# Altium integrated library Infineon_Power_LED_Driver_IC_and_Lighting_IC.IntLib: 61 symbols (part 2 of 3)
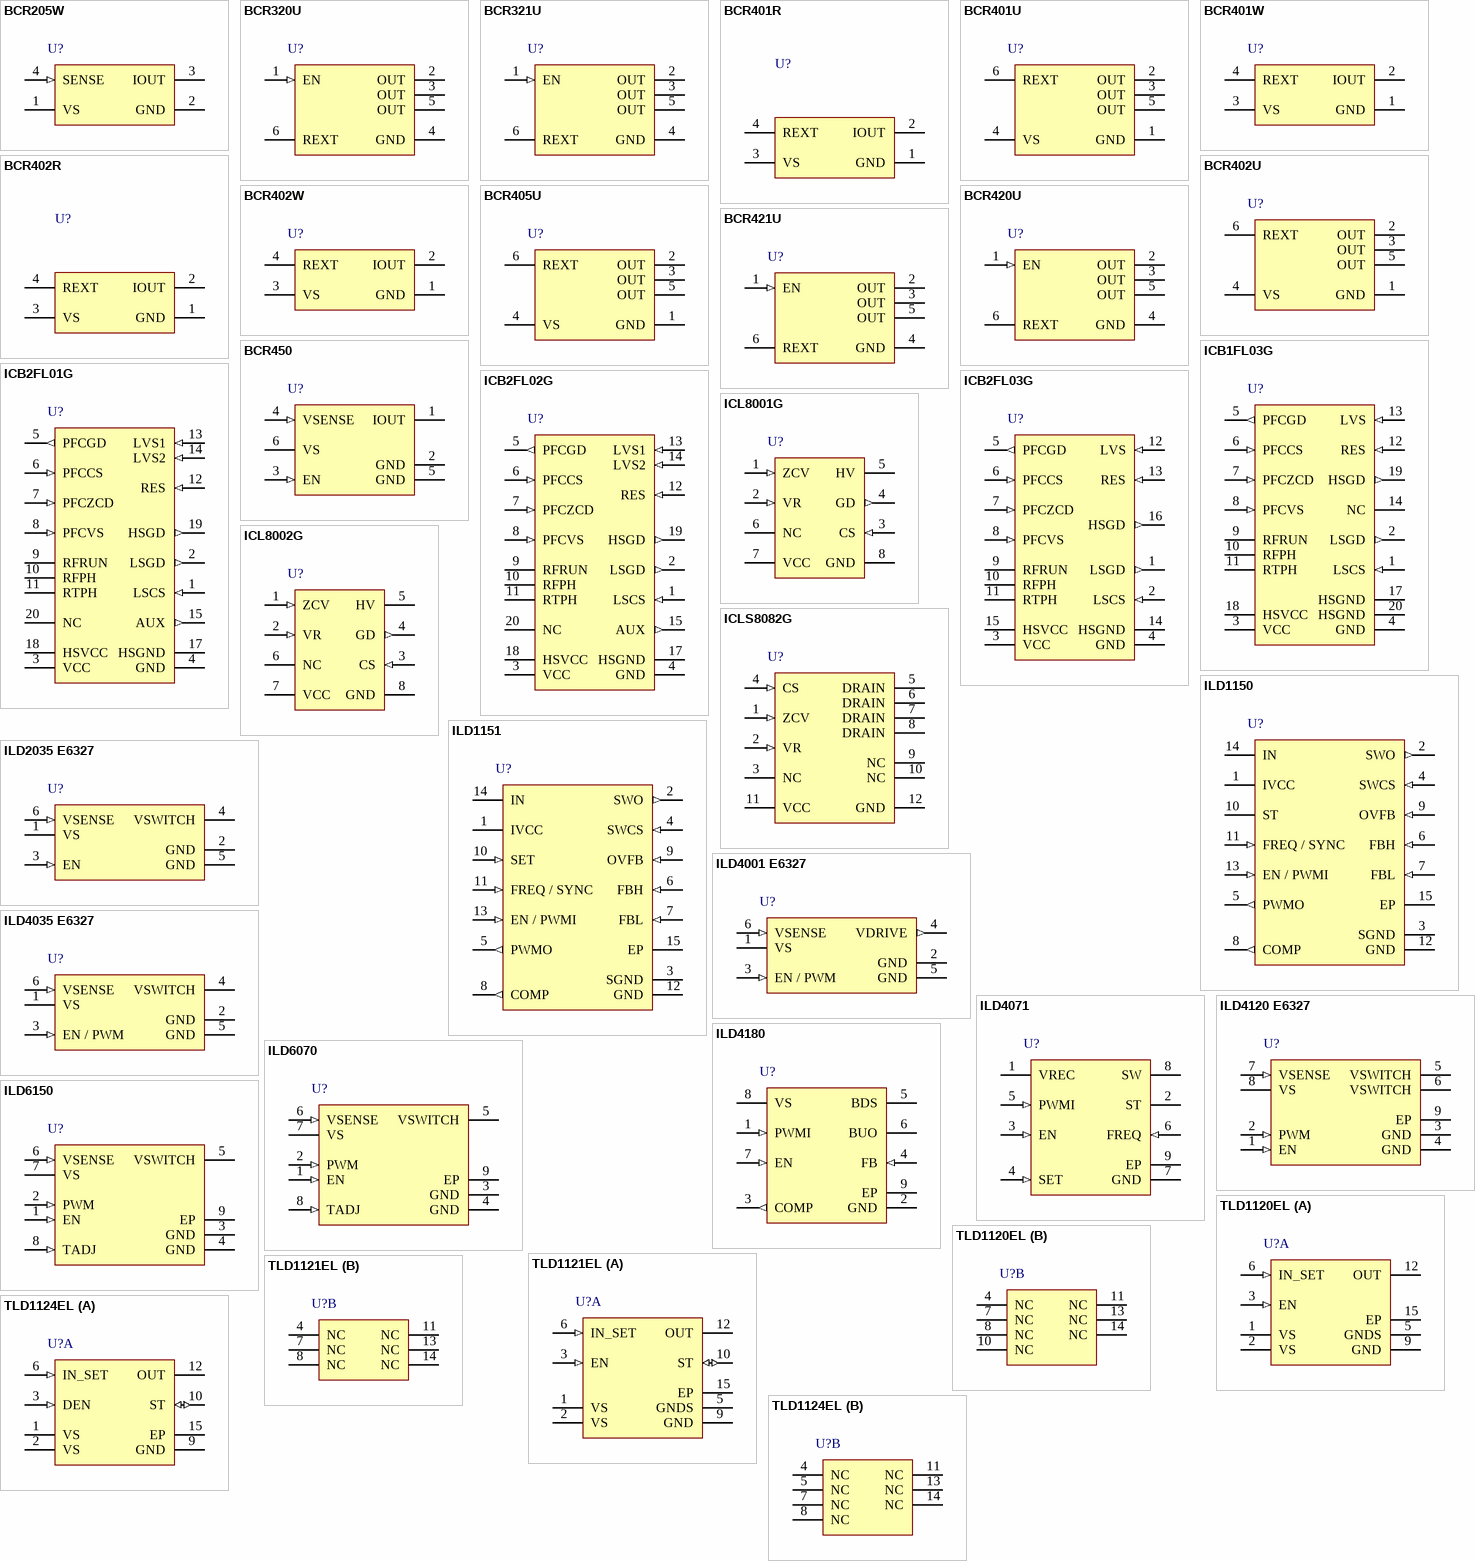
[diagram p2: symbols BCR205W to TLD1124EL]

## ILD4120 E6327
designator U?
1200 mA Step Down LED Driver, 4.5 to 40 V, PG-DSO-8-27, Reel, Pb-free; Manufacturer: Infineon; PartNumber: ILD4120 E6327; Green: TRUE; VS (max): 40 V; VS (min): 4.5 V; DatasheetVersion: Revision 6.0; PackageVersion: V01, 06/2012; PackageReference: PG-DSO-8-27; PackageDescription: 8-Pin Plastic (Green) Dual Small Outline Package, 4.9 x 3.9 mm Body, 1.27 mm Pitch; Halogen-free: TRUE; Packing: Reel; Type: Buck; Mounting Technology: Surface Mount; Code_JEDEC: MS-012; ComponentLink1Description: Manufacturer URL; ComponentLink1URL: http://www.infineon.com/; ComponentLink2Description: Datasheet; ComponentLink2URL: http://www.infineon.com/dgdl/Infineon-ILD4120-1200mA-LED-Driver-Rev6.0.pdf?folderId=db3a3043324cae8c01326744839b6812&fileId=db3a3043324cae8c0132674515946813&location=en.Products.LED_Drivers___Lighting_ICs.LED_Driver_for_Outdoor_Lighting___Indoor_Lighting.LED_Driver__Product_portfolio_and_Information.DATASHEET.Infineon-ILD4120-1200mA-LED-Driver-Rev6.0.pdf; ComponentLink3Description: Package Specification; ComponentLink3URL: http://www.infineon.com/dgdl/ILD4071_DS_V10_November2011.pdf?folderId=db3a30431f848401011fcbf2ab4c04c4&fileId=db3a30433784a04001380498fdf04c32
footprint INF-PG-DSO-8-27_N (SOP, 8-Leads, Body 4.9x3.9mm, Pitch 1.27mm, Thermal Pad 3.2x2.85mm, IPC Medium Density)
footprint INF-PG-DSO-8-27_L (SOP, 8-Leads, Body 4.9x3.9mm, Pitch 1.27mm, Thermal Pad 3.2x2.85mm, IPC High Density)
footprint INF-PG-DSO-8-27_M (SOP, 8-Leads, Body 4.9x3.9mm, Pitch 1.27mm, Thermal Pad 3.2x2.85mm, IPC Low Density)
pins: 1 EN (in) "Chip enable signal", 2 PWM (in) "Dimming signal: Analog dimming  PWM dimming", 3 GND (power) "IC ground", 4 GND (power) "IC ground", 5 VSWITCH (oc) "Power switch output", 6 VSWITCH (oc) "Power switch output", 7 VSENSE (in) "LED current sense input", 8 VS (power) "Supply voltage", 9 EP (power) "Heat spreader"

## ILD4180
designator U?
1.8 A DC/DC Step-Down Converter LED Driver for Industrial Application, 4.75 V to 45 V, PG-DSO-8-27, Reel, Pb-free; Manufacturer: Infineon; PartNumber: ILD4180; Green: TRUE; VS (max): 45 V; VS (min): 4.75 V; DatasheetVersion: Rev. 1.1; PackageVersion: V01, 06/2012; PackageReference: PG-DSO-8-27; PackageDescription: 8-Pin Plastic (Green) Dual Small Outline Package, 4.9 x 3.9 mm Body, 1.27 mm Pitch; Supplier 1: Mouser; Supplier Part Number 1: 726-ILD4180; Supplier 2: Digi-Key; Supplier Part Number 2: ILD4180-ND; Halogen-free: TRUE; Packing: Reel; Type: Buck; Mounting Technology: Surface Mount; Code_JEDEC: MS-012; ComponentLink1Description: Manufacturer URL; ComponentLink1URL: http://www.infineon.com/; ComponentLink2Description: Datasheet; ComponentLink2URL: http://www.infineon.com/dgdl/ILD4180.pdf?folderId=db3a30431f848401011fcbf2ab4c04c4&fileId=db3a3043284aacd80128ab4bf6212b32&location=en.Products.LED_Drivers___Lighting_ICs.LED_Driver_for_Outdoor_Lighting___Indoor_Lighting.LED_Driver__Product_portfolio_and_Information.DATASHEET.ILD4180.pdf; ComponentLink3Description: Package Specification; ComponentLink3URL: http://www.infineon.com/dgdl/ILD4071_DS_V10_November2011.pdf?folderId=db3a30431f848401011fcbf2ab4c04c4&fileId=db3a30433784a04001380498fdf04c32
footprint INF-PG-DSO-8-27_N (SOP, 8-Leads, Body 4.9x3.9mm, Pitch 1.27mm, Thermal Pad 3.2x2.85mm, IPC Medium Density)
footprint INF-PG-DSO-8-27_L (SOP, 8-Leads, Body 4.9x3.9mm, Pitch 1.27mm, Thermal Pad 3.2x2.85mm, IPC High Density)
footprint INF-PG-DSO-8-27_M (SOP, 8-Leads, Body 4.9x3.9mm, Pitch 1.27mm, Thermal Pad 3.2x2.85mm, IPC Low Density)
pins: 1 PWMI (in) "PWM Input for; Provides LED dimming option. If not used connect to VS.", 2 GND (power) "Ground; Connect to system ground.", 3 COMP (out) "Compensation Input; Frequency compensation for regulation loop stability. Connect R and C network to pin for stability.", 4 FB (in) "Feedback Input; Connect a defined power resistor (RFB=0.6V/ILED) to get the needed LED output current. For adjustable output voltages connect this pin via a voltage divider in parallel to the output capacitor.", 5 BDS (power) "Buck Driver Supply Input; Connect the bootstrap capacitor between this pin and pin BUO.", 6 BUO (oe) "Buck Switch Output; Source of the integrated power-switch. Connect directly to the cathode of external freewheeling diode and the buck circuit inductance.", 7 EN (in) "Enable Input; Apply logic high signal to enable the device. A pull down resistor is integrated.", 8 VS (power) "Supply Voltage Input; Connect to supply voltage source.", 9 EP (power) "Exposed Pad; Connect to heatsink area and GND by low inductance wiring."

## ILD6070
designator U?
60 V / 0.7 A High Efficiency Step-Down LED Driver, 4.5 to 60 V, PG-DSO-8-27, Reel, Pb-free; Manufacturer: Infineon; PartNumber: ILD6070; Green: TRUE; VS (max): 60 V; VS (min): 4.5 V; DatasheetVersion: Revision 2.0; PackageVersion: V01, 06/2012; PackageReference: PG-DSO-8-27; PackageDescription: 8-Pin Plastic (Green) Dual Small Outline Package, 4.9 x 3.9 mm Body, 1.27 mm Pitch; Halogen-free: TRUE; Packing: Reel; Type: Buck; Mounting Technology: Surface Mount; Code_JEDEC: MS-012; ComponentLink1Description: Manufacturer URL; ComponentLink1URL: http://www.infineon.com/; ComponentLink2Description: Datasheet; ComponentLink2URL: http://www.infineon.com/dgdl/Data_Sheet_ILD6070_preliminary.pdf?folderId=db3a30431400ef68011407a9cfc70181&fileId=db3a30433d1d0bbe013d206b623716d8&location=en.Products.LED_Drivers___Lighting_ICs.LED_Driver_for_Outdoor_Lighting___Indoor_Lighting.LED_Driver__Product_portfolio_and_Information.DATASHEET.Data_Sheet_ILD6070_preliminary.pdf; ComponentLink3Description: Package Specification; ComponentLink3URL: http://www.infineon.com/dgdl/ILD4071_DS_V10_November2011.pdf?folderId=db3a30431f848401011fcbf2ab4c04c4&fileId=db3a30433784a04001380498fdf04c32
footprint INF-PG-DSO-8-27_N (SOP, 8-Leads, Body 4.9x3.9mm, Pitch 1.27mm, Thermal Pad 3.2x2.85mm, IPC Medium Density)
footprint INF-PG-DSO-8-27_L (SOP, 8-Leads, Body 4.9x3.9mm, Pitch 1.27mm, Thermal Pad 3.2x2.85mm, IPC High Density)
footprint INF-PG-DSO-8-27_M (SOP, 8-Leads, Body 4.9x3.9mm, Pitch 1.27mm, Thermal Pad 3.2x2.85mm, IPC Low Density)
pins: 1 EN (in) "IC enable signal", 2 PWM (in) "Dimming signal: Analog dimming;  PWM dimming", 3 GND (power) "IC ground", 4 GND (power) "IC ground", 5 VSWITCH (oc) "Power switch output", 6 VSENSE (in) "LED current sense input", 7 VS (power) "Supply voltage", 8 TADJ (in) "Over-temperature adjustment", 9 EP (power) "Heat spreader"

## ILD6150
designator U?
60 V / 1.5 A High Efficiency Step-Down LED Driver, 4.5 to 60 V, PG-DSO-8-27, Reel, Pb-free; Manufacturer: Infineon; PartNumber: ILD6150; Green: TRUE; VS (max): 60 V; VS (min): 4.5 V; DatasheetVersion: Revision 2.1; PackageVersion: V01, 06/2012; PackageReference: PG-DSO-8-27; PackageDescription: 8-Pin Plastic (Green) Dual Small Outline Package, 4.9 x 3.9 mm Body, 1.27 mm Pitch; Halogen-free: TRUE; Packing: Reel; Type: Buck; Mounting Technology: Surface Mount; Code_JEDEC: MS-012; ComponentLink1Description: Manufacturer URL; ComponentLink1URL: http://www.infineon.com/; ComponentLink2Description: Datasheet; ComponentLink2URL: http://www.infineon.com/dgdl/Data_Sheet_ILD6150_preliminary.pdf?folderId=db3a30431400ef68011407a9cfc70181&fileId=db3a30433cabdd35013cb490a0006ca8&location=en.Products.LED_Drivers___Lighting_ICs.LED_Driver_for_Outdoor_Lighting___Indoor_Lighting.LED_Driver__Product_portfolio_and_Information.DATASHEET.Data_Sheet_ILD6150_preliminary.pdf; ComponentLink3Description: Package Specification; ComponentLink3URL: http://www.infineon.com/dgdl/ILD4071_DS_V10_November2011.pdf?folderId=db3a30431f848401011fcbf2ab4c04c4&fileId=db3a30433784a04001380498fdf04c32
footprint INF-PG-DSO-8-27_N (SOP, 8-Leads, Body 4.9x3.9mm, Pitch 1.27mm, Thermal Pad 3.2x2.85mm, IPC Medium Density)
footprint INF-PG-DSO-8-27_L (SOP, 8-Leads, Body 4.9x3.9mm, Pitch 1.27mm, Thermal Pad 3.2x2.85mm, IPC High Density)
footprint INF-PG-DSO-8-27_M (SOP, 8-Leads, Body 4.9x3.9mm, Pitch 1.27mm, Thermal Pad 3.2x2.85mm, IPC Low Density)
pins: 1 EN (in) "IC enable signal", 2 PWM (in) "Dimming signal: Analog dimming;  PWM dimming", 3 GND (power) "IC ground", 4 GND (power) "IC ground", 5 VSWITCH (oc) "Power switch output", 6 VSENSE (in) "LED current sense input", 7 VS (power) "Supply voltage", 8 TADJ (in) "Over-temperature adjustment", 9 EP (power) "Heat spreader"

## TLD1120EL
designator U?
1 Channel High Side Current Source Basic LED Driver, 5.5 to 40 V, -40 to 150 degC, PG-SSOP-14, Reel, Green; Manufacturer: Infineon; PartNumber: TLD1120EL; Green: TRUE; Iq (typ): 0.1 uA; Open Load Detection: FALSE; Output Current (typ) mA/Ch: 180 mA; Tolerance: 7 %; VQ (max): 40 V; VS (max): 40 V; VS (min): 5.5 V; DatasheetVersion: Rev. 1.0; PackageVersion: Oct-08; PackageReference: PG-SSOP-14-1; PackageDescription: 14-Pin Plastic (Green) Shrink Small Outline Package, 4.9 x 3.9 mm Body, 0.65 mm Pitch; Supplier 1: Mouser; Supplier Part Number 1: N/A; Halogen-free: TRUE; Packing: Reel; PWM: TRUE; Short Circuit Protection: TRUE; Mounting Technology: Surface Mount; ComponentLink1Description: Manufacturer URL; ComponentLink1URL: http://www.infineon.com/; ComponentLink2Description: Datasheet; ComponentLink2URL: http://www.infineon.com/dgdl/TLD1120EL-Data-Sheet-10-Infineon.pdf?folderId=db3a304412b407950112b408e8c90004&fileId=db3a30434422e00e01442b2fbf8350da&ack=t; ComponentLink3Description: Package Specification; ComponentLink3URL: http://www.infineon.com/dgdl/PG-SSOP-14-1%2C-2%2C-3%2C-5-Package_Overview.pdf?folderId=db3a304327b897500127f79f69566553&fileId=db3a3043422231a901422ce38a900db8
footprint INF-PG-SSOP-14-1_N (SOP, 14-Leads, Body 4.9x3.9mm, Pitch 0.65mm, Thermal Pad 3.2x2.85mm, IPC Medium Density)
footprint INF-PG-SSOP-14-1_L (SOP, 14-Leads, Body 4.9x3.9mm, Pitch 0.65mm, Thermal Pad 3.2x2.85mm, IPC High Density)
footprint INF-PG-SSOP-14-1_M (SOP, 14-Leads, Body 4.9x3.9mm, Pitch 0.65mm, Thermal Pad 3.2x2.85mm, IPC Low Density)
part A pins: 1 VS (power) "Supply Voltage; battery supply, connect a decoupling capacitor (100 nF - 1 uF) to GND", 2 VS (power) "Supply Voltage; battery supply, connect a decoupling capacitor (100 nF - 1 uF) to GND", 3 EN (in) "Enable pin", 5 GNDS (power) "GNDS; Signal GND, connect to GND", 6 IN_SET (in) "Input / SET pin; Connect a low power resistor to adjust the output current", 9 GND (power) "Ground", 12 OUT (power) "Output", 15 EP (power) "Exposed Pad; connect to GND in application"
part B pins: 4 NC "Pin not connected", 7 NC "Pin not connected", 8 NC "Pin not connected", 10 NC "Pin not connected", 11 NC "Pin not connected", 13 NC "Pin not connected", 14 NC "Pin not connected"

## TLD1121EL
designator U?
1 Channel High Side Current Source Basic LED Driver, 5.5 to 40 V, -40 to 150 degC, PG-SSOP-14, Reel, Green; Manufacturer: Infineon; PartNumber: TLD1121EL; Green: TRUE; Iq (typ): 0.1 uA; Output Current (typ) mA/Ch: 180 mA; Tolerance: 7 %; VQ (max): 40 V; VS (max): 40 V; VS (min): 5.5 V; DatasheetVersion: Rev. 1.0; PackageVersion: Oct-08; PackageReference: PG-SSOP-14-1; PackageDescription: 14-Pin Plastic (Green) Shrink Small Outline Package, 4.9 x 3.9 mm Body, 0.65 mm Pitch; Supplier 1: Mouser; Supplier Part Number 1: N/A; Halogen-free: TRUE; Open Load Detection: TRUE; Packing: Reel; PWM: TRUE; Short Circuit Protection: TRUE; Mounting Technology: Surface Mount; ComponentLink1Description: Manufacturer URL; ComponentLink1URL: http://www.infineon.com/; ComponentLink2Description: Datasheet; ComponentLink2URL: http://www.infineon.com/dgdl/TLD1121EL-Data-Sheet-10-Infineon.pdf?folderId=db3a304412b407950112b408e8c90004&fileId=db3a304341c1e4a10141dfa52ad07e41&ack=t; ComponentLink3Description: Package Specification; ComponentLink3URL: http://www.infineon.com/dgdl/PG-SSOP-14-1%2C-2%2C-3%2C-5-Package_Overview.pdf?folderId=db3a304327b897500127f79f69566553&fileId=db3a3043422231a901422ce38a900db8
footprint INF-PG-SSOP-14-1_N (SOP, 14-Leads, Body 4.9x3.9mm, Pitch 0.65mm, Thermal Pad 3.2x2.85mm, IPC Medium Density)
footprint INF-PG-SSOP-14-1_L (SOP, 14-Leads, Body 4.9x3.9mm, Pitch 0.65mm, Thermal Pad 3.2x2.85mm, IPC High Density)
footprint INF-PG-SSOP-14-1_M (SOP, 14-Leads, Body 4.9x3.9mm, Pitch 0.65mm, Thermal Pad 3.2x2.85mm, IPC Low Density)
part A pins: 1 VS (power) "Supply Voltage; battery supply, connect a decoupling capacitor (100 nF -1 uF) to GND", 2 VS (power) "Supply Voltage; battery supply, connect a decoupling capacitor (100 nF -1 uF) to GND", 3 EN (in) "Enable pin", 5 GNDS (power) "GNDS; Signal GND, connect to GND", 6 IN_SET (in) "Input / SET pin; Connect a low power resistor to adjust the output current", 9 GND (power) "Ground", 10 ST (io) "Status pin", 12 OUT (power) "Output", 15 EP (power) "Exposed Pad; connect to GND in application"
part B pins: 4 NC "Pin not connected", 7 NC "Pin not connected", 8 NC "Pin not connected", 11 NC "Pin not connected", 13 NC "Pin not connected", 14 NC "Pin not connected"

## TLD1124EL
designator U?
1 Channel High Side Current Source Basic LED Driver, 5.5 to 40 V, -40 to 150 degC, PG-SSOP-14, Reel, Green; Manufacturer: Infineon; PartNumber: TLD1124EL; Green: TRUE; Iq (typ): 0.1 uA; Output Current (typ) mA/Ch: 180 mA; Tolerance: 7 %; VQ (max): 40 V; VS (max): 40 V; VS (min): 5.5 V; DatasheetVersion: Rev. 1.0; PackageVersion: Oct-08; PackageReference: PG-SSOP-14-1; PackageDescription: 14-Pin Plastic (Green) Shrink Small Outline Package, 4.9 x 3.9 mm Body, 0.65 mm Pitch; Supplier 1: Mouser; Supplier Part Number 1: N/A; Halogen-free: TRUE; Open Load Detection: TRUE; Packing: Reel; PWM: TRUE; Short Circuit Protection: TRUE; Mounting Technology: Surface Mount; ComponentLink1Description: Manufacturer URL; ComponentLink1URL: http://www.infineon.com/; ComponentLink2Description: Datasheet; ComponentLink2URL: http://www.infineon.com/dgdl/TLD1124EL-Data-Sheet-10-Infineon.pdf?folderId=db3a304412b407950112b408e8c90004&fileId=db3a304341c1e4a10141dfadf0e607ee&ack=t; ComponentLink3Description: Package Specification; ComponentLink3URL: http://www.infineon.com/dgdl/PG-SSOP-14-1%2C-2%2C-3%2C-5-Package_Overview.pdf?folderId=db3a304327b897500127f79f69566553&fileId=db3a3043422231a901422ce38a900db8
footprint INF-PG-SSOP-14-1_N (SOP, 14-Leads, Body 4.9x3.9mm, Pitch 0.65mm, Thermal Pad 3.2x2.85mm, IPC Medium Density)
footprint INF-PG-SSOP-14-1_L (SOP, 14-Leads, Body 4.9x3.9mm, Pitch 0.65mm, Thermal Pad 3.2x2.85mm, IPC High Density)
footprint INF-PG-SSOP-14-1_M (SOP, 14-Leads, Body 4.9x3.9mm, Pitch 0.65mm, Thermal Pad 3.2x2.85mm, IPC Low Density)
part A pins: 1 VS (power) "Supply Voltage; battery supply, connect a decoupling capacitor (100 nF - 1 uF) to GND", 2 VS (power) "Supply Voltage; battery supply, connect a decoupling capacitor (100 nF - 1 uF) to GND", 3 DEN (in) "Diagnosis enable pin", 6 IN_SET (in) "Input / SET pin; Connect a low power resistor to adjust the output current", 9 GND (power) "Ground", 10 ST (io) "Status pin", 12 OUT (power) "Output", 15 EP (power) "Exposed Pad; connect to GND in application"
part B pins: 4 NC "Pin not connected", 5 NC "Pin not connected", 7 NC "Pin not connected", 8 NC "Pin not connected", 11 NC "Pin not connected", 13 NC "Pin not connected", 14 NC "Pin not connected"

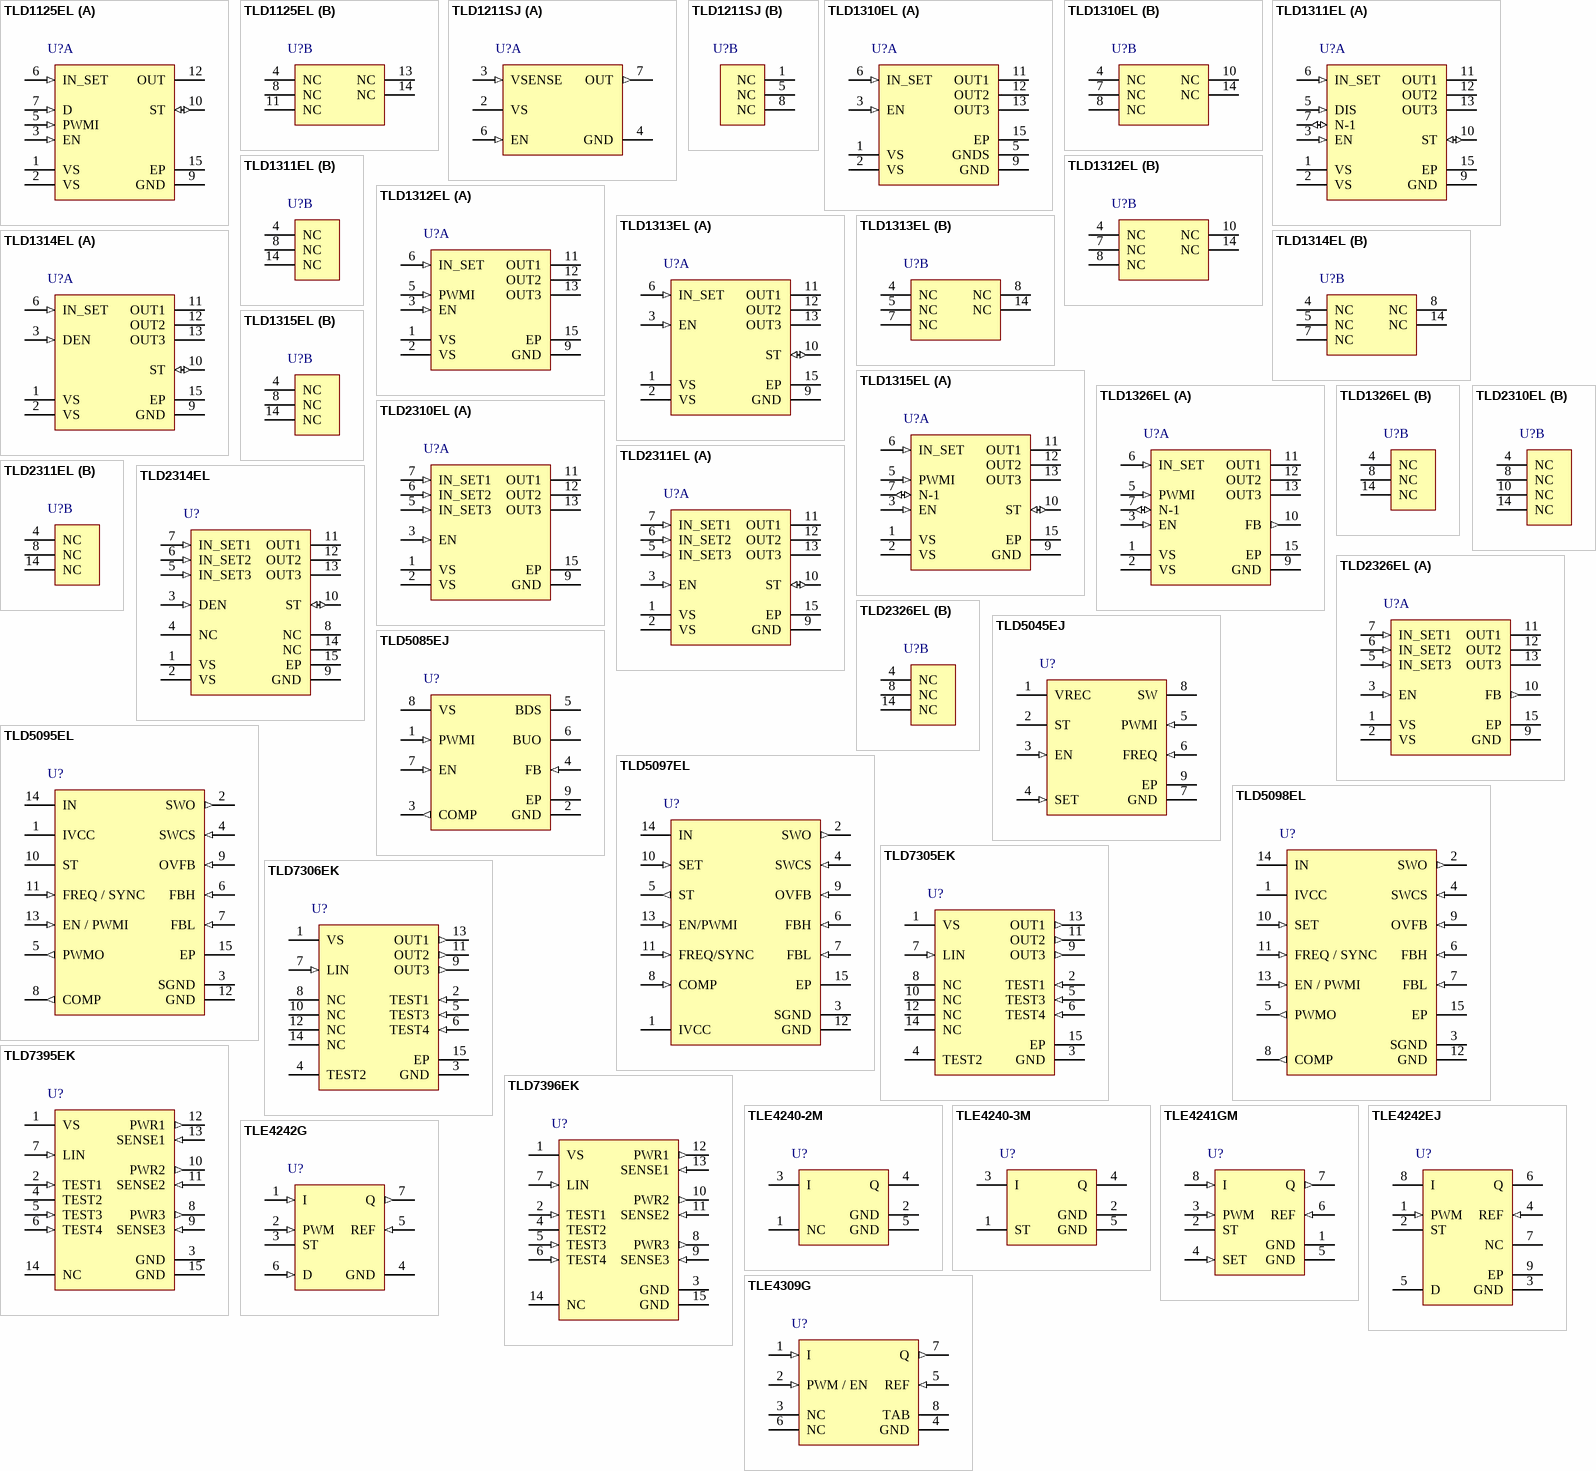
[diagram p1: symbols TLD1125EL to TLE4309G]

## TLD1125EL
designator U?
1 Channel High Side Current Source Basic LED Driver, 5.5 to 40 V, -40 to 150 degC, PG-SSOP-14, Reel, Green; Manufacturer: Infineon; PartNumber: TLD1125EL; Green: TRUE; Iq (typ): 0.1 uA; Output Current (typ) mA/Ch: 180 mA; Tolerance: 7 %; VQ (max): 40 V; VS (max): 40 V; VS (min): 5.5 V; DatasheetVersion: Rev. 1.0; PackageVersion: Oct-08; PackageReference: PG-SSOP-14-1; PackageDescription: 14-Pin Plastic (Green) Shrink Small Outline Package, 4.9 x 3.9 mm Body, 0.65 mm Pitch; Supplier 1: Mouser; Supplier Part Number 1: N/A; Halogen-free: TRUE; Open Load Detection: TRUE; Packing: Reel; PWM: TRUE; Short Circuit Protection: TRUE; Mounting Technology: Surface Mount; ComponentLink1Description: Manufacturer URL; ComponentLink1URL: http://www.infineon.com/; ComponentLink2Description: Datasheet; ComponentLink2URL: http://www.infineon.com/dgdl/TLD1125EL-Data-Sheet-10-Infineon.pdf?folderId=db3a304412b407950112b408e8c90004&fileId=db3a304341c1e4a10141dfd5ee950821&ack=t; ComponentLink3Description: Package Specification; ComponentLink3URL: http://www.infineon.com/dgdl/PG-SSOP-14-1%2C-2%2C-3%2C-5-Package_Overview.pdf?folderId=db3a304327b897500127f79f69566553&fileId=db3a3043422231a901422ce38a900db8
footprint INF-PG-SSOP-14-1_N (SOP, 14-Leads, Body 4.9x3.9mm, Pitch 0.65mm, Thermal Pad 3.2x2.85mm, IPC Medium Density)
footprint INF-PG-SSOP-14-1_L (SOP, 14-Leads, Body 4.9x3.9mm, Pitch 0.65mm, Thermal Pad 3.2x2.85mm, IPC High Density)
footprint INF-PG-SSOP-14-1_M (SOP, 14-Leads, Body 4.9x3.9mm, Pitch 0.65mm, Thermal Pad 3.2x2.85mm, IPC Low Density)
part A pins: 1 VS (power) "Supply Voltage; battery supply, connect a decoupling capacitor (100 nF - 1 uF) to GND", 2 VS (power) "Supply Voltage; battery supply, connect a decoupling capacitor (100 nF - 1 uF) to GND", 3 EN (in) "Enable pin", 5 PWMI (in) "PWM Input", 6 IN_SET (in) "Input / SET pin; Connect a low power resistor to adjust the output current", 7 D (in) "Delay for open load detection", 9 GND (power) "Ground", 10 ST (io) "Status pin", 12 OUT (power) "Output", 15 EP (power) "Exposed Pad; connect to GND in application"
part B pins: 4 NC "Pin not connected", 8 NC "Pin not connected", 11 NC "Pin not connected", 13 NC "Pin not connected", 14 NC "Pin not connected"

## TLD1211SJ
designator U?
High Side Current Source 1 Channel Typical 85 mA Load Current, Up to 2.5 A Load Current Using Extemal Transistors, 8 V to 28 V, PG-DSO-8-16, Reel, Pb-free; Manufacturer: Infineon; PartNumber: TLD1211SJ; Green: TRUE; Topology: Linear; VS (max): 28 V; VS (min): 8 V; DatasheetVersion: Rev. 1.0; PackageVersion: Mar-07; PackageReference: PG-DSO-8-16; PackageDescription: 8-Pin Plastic (Green) Dual Small Outline Package, 4.9 x 3.9 mm Body, 1.27 mm Pitch; Supplier 1: Mouser; Supplier Part Number 1: 726-TLD1211SJ; Packing: Reel; Mounting Technology: Surface Mount; ComponentLink1Description: Manufacturer URL; ComponentLink1URL: http://www.infineon.com/; ComponentLink2Description: Datasheet; ComponentLink2URL: http://www.infineon.com/dgdl/TLD1211SJ_DS_10.pdf?folderId=db3a304314dca389011561889ef01fe7&fileId=db3a304327b8975001284405c9a76a57&location=en.Products.Automotive_ICs.Infineon_Auto_LED_Driver.Basic_LED-Driver.DATASHEET.TLD1211SJ_DS_10.pdf; ComponentLink3Description: Package Specification; ComponentLink3URL: http://www.infineon.com/dgdl/TLE7259-2GE_DS_rev12.pdf?folderId=db3a3043163797a6011666d32a0c0de1&fileId=db3a3043163797a6011666d4dbb80de2&location=en.Products.Automotive_ICs.Automotive_Transceivers.LIN_Transceivers.DATASHEET.TLE7259-2GE_DS_rev12.pdf
footprint INF-PG-DSO-8-16_N (SOP, 8-Leads, Body 4.9x3.9mm, Pitch 1.27mm, IPC Medium Density)
footprint INF-PG-DSO-8-16_L (SOP, 8-Leads, Body 4.9x3.9mm, Pitch 1.27mm, IPC High Density)
footprint INF-PG-DSO-8-16_M (SOP, 8-Leads, Body 4.9x3.9mm, Pitch 1.27mm, IPC Low Density)
part A pins: 2 VS (power) "Supply voltage", 3 VSENSE (in) "Sense input", 4 GND (power) "IC ground, connect with pin 2 on PCB", 6 EN (in) "Enable(PWM Input)", 7 OUT (out) "Output"
part B pins: 1 NC "Not connected", 5 NC "Not connected", 8 NC "Not connected"

## TLD1310EL
designator U?
3 Channel High Side Current Source Basic LED Driver, 5.5 to 40 V, -40 to 150 degC, PG-SSOP-14, Reel, Green; Manufacturer: Infineon; PartNumber: TLD1310EL; Green: TRUE; Iq (typ): 0.1 uA; Open Load Detection: FALSE; Output Current (typ) mA/Ch: 60 mA; Tolerance: 7 %; VQ (max): 40 V; VS (max): 40 V; VS (min): 5.5 V; DatasheetVersion: Rev. 1.0; PackageVersion: Oct-08; PackageReference: PG-SSOP-14-1; PackageDescription: 14-Pin Plastic (Green) Shrink Small Outline Package, 4.9 x 3.9 mm Body, 0.65 mm Pitch; Supplier 1: Mouser; Supplier Part Number 1: N/A; Halogen-free: TRUE; Packing: Reel; PWM: TRUE; Short Circuit Protection: TRUE; Mounting Technology: Surface Mount; ComponentLink1Description: Manufacturer URL; ComponentLink1URL: http://www.infineon.com/; ComponentLink2Description: Datasheet; ComponentLink2URL: http://www.infineon.com/dgdl/TLD1310EL-Data-Sheet-10-Infineon.pdf?folderId=db3a304412b407950112b408e8c90004&fileId=db3a30434422e00e01442a7490ca4e8c&ack=t; ComponentLink3Description: Package Specification; ComponentLink3URL: http://www.infineon.com/dgdl/PG-SSOP-14-1%2C-2%2C-3%2C-5-Package_Overview.pdf?folderId=db3a304327b897500127f79f69566553&fileId=db3a3043422231a901422ce38a900db8
footprint INF-PG-SSOP-14-1_N (SOP, 14-Leads, Body 4.9x3.9mm, Pitch 0.65mm, Thermal Pad 3.2x2.85mm, IPC Medium Density)
footprint INF-PG-SSOP-14-1_L (SOP, 14-Leads, Body 4.9x3.9mm, Pitch 0.65mm, Thermal Pad 3.2x2.85mm, IPC High Density)
footprint INF-PG-SSOP-14-1_M (SOP, 14-Leads, Body 4.9x3.9mm, Pitch 0.65mm, Thermal Pad 3.2x2.85mm, IPC Low Density)
part A pins: 1 VS (power) "Supply Voltage; battery supply, connect a decoupling capacitor (100 nF -1 uF) to GND", 2 VS (power) "Supply Voltage; battery supply, connect a decoupling capacitor (100 nF -1 uF) to GND", 3 EN (in) "Enable pin", 5 GNDS (power) "GNDS; Signal GND, connect to GND", 6 IN_SET (in) "Input / SET pin; Connect a low power resistor to adjust the output current", 9 GND (power) "Ground", 11 OUT1 (power) "Output 1", 12 OUT2 (power) "Output 2", 13 OUT3 (power) "Output 3", 15 EP (power) "Exposed Pad; connect to GND in application"
part B pins: 4 NC "Pin not connected", 7 NC "Pin not connected", 8 NC "Pin not connected", 10 NC "Pin not connected", 14 NC "Pin not connected"

## TLD1311EL
designator U?
3 Channel High Side Current Source Basic LED Driver, 5.5 to 40 V, -40 to 150 degC, PG-SSOP-14, Reel, Green; Manufacturer: Infineon; PartNumber: TLD1311EL; Green: TRUE; Iq (typ): 0.1 uA; Open Load Detection: FALSE; Output Current (typ) mA/Ch: 60 mA; Tolerance: 7 %; VQ (max): 40 V; VS (max): 40 V; VS (min): 5.5 V; DatasheetVersion: Rev. 1.0; PackageVersion: Oct-08; PackageReference: PG-SSOP-14-1; PackageDescription: 14-Pin Plastic (Green) Shrink Small Outline Package, 4.9 x 3.9 mm Body, 0.65 mm Pitch; Supplier 1: Mouser; Supplier Part Number 1: N/A; Halogen-free: TRUE; Packing: Reel; PWM: TRUE; Short Circuit Protection: TRUE; Mounting Technology: Surface Mount; ComponentLink1Description: Manufacturer URL; ComponentLink1URL: http://www.infineon.com/; ComponentLink2Description: Datasheet; ComponentLink2URL: http://www.infineon.com/dgdl/TLD1311EL-Data-Sheet-10-Infineon.pdf?folderId=db3a304412b407950112b408e8c90004&fileId=db3a30434422e00e01442a7916464eb4&ack=t; ComponentLink3Description: Package Specification; ComponentLink3URL: http://www.infineon.com/dgdl/PG-SSOP-14-1%2C-2%2C-3%2C-5-Package_Overview.pdf?folderId=db3a304327b897500127f79f69566553&fileId=db3a3043422231a901422ce38a900db8
footprint INF-PG-SSOP-14-1_N (SOP, 14-Leads, Body 4.9x3.9mm, Pitch 0.65mm, Thermal Pad 3.2x2.85mm, IPC Medium Density)
footprint INF-PG-SSOP-14-1_L (SOP, 14-Leads, Body 4.9x3.9mm, Pitch 0.65mm, Thermal Pad 3.2x2.85mm, IPC High Density)
footprint INF-PG-SSOP-14-1_M (SOP, 14-Leads, Body 4.9x3.9mm, Pitch 0.65mm, Thermal Pad 3.2x2.85mm, IPC Low Density)
part A pins: 1 VS (power) "Supply Voltage; battery supply, connect a decoupling capacitor (100 nF -1 uF) to GND", 2 VS (power) "Supply Voltage; battery supply, connect a decoupling capacitor (100 nF -1 uF) to GND", 3 EN (in) "Enable pin", 5 DIS (in) "Disable Input", 6 IN_SET (in) "Input / SET pin; Connect a low power resistor to adjust the output current", 7 N-1 (io) "N-1 pin", 9 GND (power) "Ground", 10 ST (io) "Status pin", 11 OUT1 (power) "Output 1", 12 OUT2 (power) "Output 2", 13 OUT3 (power) "Output 3", 15 EP (power) "Exposed Pad; connect to GND in application"
part B pins: 4 NC "Pin not connected", 8 NC "Pin not connected", 14 NC "Pin not connected"

## TLD1312EL
designator U?
3 Channel High Side Current Source Basic LED Driver, 5.5 to 40 V, -40 to 150 degC, PG-SSOP-14, Reel, Green; Manufacturer: Infineon; PartNumber: TLD1312EL; Green: TRUE; Iq (typ): 0.1 uA; Open Load Detection: FALSE; Output Current (typ) mA/Ch: 60 mA; Tolerance: 7 %; VQ (max): 40 V; VS (max): 40 V; VS (min): 5.5 V; DatasheetVersion: Rev. 1.0; PackageVersion: Oct-08; PackageReference: PG-SSOP-14-1; PackageDescription: 14-Pin Plastic (Green) Shrink Small Outline Package, 4.9 x 3.9 mm Body, 0.65 mm Pitch; Supplier 1: Mouser; Supplier Part Number 1: N/A; Halogen-free: TRUE; Packing: Reel; PWM: TRUE; Short Circuit Protection: TRUE; Mounting Technology: Surface Mount; ComponentLink1Description: Manufacturer URL; ComponentLink1URL: http://www.infineon.com/; ComponentLink2Description: Datasheet; ComponentLink2URL: http://www.infineon.com/dgdl/TLD1312EL-Data-Sheet-10-Infineon.pdf?folderId=db3a304412b407950112b408e8c90004&fileId=db3a30434422e00e01442a7d7dfa4ed9&ack=t; ComponentLink3Description: Package Specification; ComponentLink3URL: http://www.infineon.com/dgdl/PG-SSOP-14-1%2C-2%2C-3%2C-5-Package_Overview.pdf?folderId=db3a304327b897500127f79f69566553&fileId=db3a3043422231a901422ce38a900db8
footprint INF-PG-SSOP-14-1_N (SOP, 14-Leads, Body 4.9x3.9mm, Pitch 0.65mm, Thermal Pad 3.2x2.85mm, IPC Medium Density)
footprint INF-PG-SSOP-14-1_L (SOP, 14-Leads, Body 4.9x3.9mm, Pitch 0.65mm, Thermal Pad 3.2x2.85mm, IPC High Density)
footprint INF-PG-SSOP-14-1_M (SOP, 14-Leads, Body 4.9x3.9mm, Pitch 0.65mm, Thermal Pad 3.2x2.85mm, IPC Low Density)
part A pins: 1 VS (power) "Supply Voltage; battery supply, connect a decoupling capacitor (100 nF -1 uF) to GND", 2 VS (power) "Supply Voltage; battery supply, connect a decoupling capacitor (100 nF -1 uF) to GND", 3 EN (in) "Enable pin", 5 PWMI (in) "PWM Input", 6 IN_SET (in) "Input / SET pin; Connect a low power resistor to adjust the output current", 9 GND (power) "Ground", 11 OUT1 (power) "Output 1", 12 OUT2 (power) "Output 2", 13 OUT3 (power) "Output 3", 15 EP (power) "Exposed Pad; connect to GND in application"
part B pins: 4 NC "Pin not connected", 7 NC "Pin not connected", 8 NC "Pin not connected", 10 NC "Pin not connected", 14 NC "Pin not connected"

## TLD1313EL
designator U?
3 Channel High Side Current Source Basic LED Driver, 5.5 to 40 V, -40 to 150 degC, PG-SSOP-14, Reel, Green; Manufacturer: Infineon; PartNumber: TLD1313EL; Green: TRUE; Iq (typ): 0.1 uA; Output Current (typ) mA/Ch: 60 mA; Tolerance: 7 %; VQ (max): 40 V; VS (max): 40 V; VS (min): 5.5 V; DatasheetVersion: Rev. 1.0; PackageVersion: Oct-08; PackageReference: PG-SSOP-14-1; PackageDescription: 14-Pin Plastic (Green) Shrink Small Outline Package, 4.9 x 3.9 mm Body, 0.65 mm Pitch; Supplier 1: Mouser; Supplier Part Number 1: N/A; Halogen-free: TRUE; Open Load Detection: TRUE; Packing: Reel; PWM: TRUE; Short Circuit Protection: TRUE; Mounting Technology: Surface Mount; ComponentLink1Description: Manufacturer URL; ComponentLink1URL: http://www.infineon.com/; ComponentLink2Description: Datasheet; ComponentLink2URL: http://www.infineon.com/dgdl/TLD1313EL-Data-Sheet-10-Infineon.pdf?folderId=db3a304412b407950112b408e8c90004&fileId=db3a304341c1e4a10141dfac3272072f&ack=t; ComponentLink3Description: Package Specification; ComponentLink3URL: http://www.infineon.com/dgdl/PG-SSOP-14-1%2C-2%2C-3%2C-5-Package_Overview.pdf?folderId=db3a304327b897500127f79f69566553&fileId=db3a3043422231a901422ce38a900db8
footprint INF-PG-SSOP-14-1_N (SOP, 14-Leads, Body 4.9x3.9mm, Pitch 0.65mm, Thermal Pad 3.2x2.85mm, IPC Medium Density)
footprint INF-PG-SSOP-14-1_L (SOP, 14-Leads, Body 4.9x3.9mm, Pitch 0.65mm, Thermal Pad 3.2x2.85mm, IPC High Density)
footprint INF-PG-SSOP-14-1_M (SOP, 14-Leads, Body 4.9x3.9mm, Pitch 0.65mm, Thermal Pad 3.2x2.85mm, IPC Low Density)
part A pins: 1 VS (power) "Supply Voltage; battery supply, connect a decoupling capacitor (100 nF -1 uF) to GND", 2 VS (power) "Supply Voltage; battery supply, connect a decoupling capacitor (100 nF -1 uF) to GND", 3 EN (in) "Enable pin", 6 IN_SET (in) "Input / SET pin; Connect a low power resistor to adjust the output current", 9 GND (power) "Ground", 10 ST (io) "Status pin", 11 OUT1 (power) "Output 1", 12 OUT2 (power) "Output 2", 13 OUT3 (power) "Output 3", 15 EP (power) "Exposed Pad; connect to GND in application"
part B pins: 4 NC "Pin not connected", 5 NC "Pin not connected", 7 NC "Pin not connected", 8 NC "Pin not connected", 14 NC "Pin not connected"

## TLD1314EL
designator U?
3 Channel High Side Current Source Basic LED Driver, 5.5 to 40 V, -40 to 150 degC, PG-SSOP-14, Reel, Green; Manufacturer: Infineon; PartNumber: TLD1314EL; Green: TRUE; Output Current (typ) mA/Ch: 60 mA; VS (max): 40 V; VS (min): 5.5 V; DatasheetVersion: Rev. 1.0; PackageVersion: Oct-08; PackageReference: PG-SSOP-14-1; PackageDescription: 14-Pin Plastic (Green) Shrink Small Outline Package, 4.9 x 3.9 mm Body, 0.65 mm Pitch; Supplier 1: Mouser; Supplier Part Number 1: N/A; Halogen-free: TRUE; Open Load Detection: TRUE; Packing: Reel; PWM: TRUE; Short Circuit Protection: TRUE; Mounting Technology: Surface Mount; ComponentLink1Description: Manufacturer URL; ComponentLink1URL: http://www.infineon.com/; ComponentLink2Description: Datasheet; ComponentLink2URL: http://www.infineon.com/dgdl/TLD1314EL-Data-Sheet-10-Infineon.pdf?folderId=db3a304412b407950112b408e8c90004&fileId=db3a304341c1e4a10141dfd3611d07fd&ack=t; ComponentLink3Description: Package Specification; ComponentLink3URL: http://www.infineon.com/dgdl/PG-SSOP-14-1%2C-2%2C-3%2C-5-Package_Overview.pdf?folderId=db3a304327b897500127f79f69566553&fileId=db3a3043422231a901422ce38a900db8
footprint INF-PG-SSOP-14-1_N (SOP, 14-Leads, Body 4.9x3.9mm, Pitch 0.65mm, Thermal Pad 3.2x2.85mm, IPC Medium Density)
footprint INF-PG-SSOP-14-1_L (SOP, 14-Leads, Body 4.9x3.9mm, Pitch 0.65mm, Thermal Pad 3.2x2.85mm, IPC High Density)
footprint INF-PG-SSOP-14-1_M (SOP, 14-Leads, Body 4.9x3.9mm, Pitch 0.65mm, Thermal Pad 3.2x2.85mm, IPC Low Density)
part A pins: 1 VS (power) "Supply Voltage; battery supply, connect a decoupling capacitor (100 nF -1 uF) to GND", 2 VS (power) "Supply Voltage; battery supply, connect a decoupling capacitor (100 nF -1 uF) to GND", 3 DEN (in) "Diagnosis enable pin", 6 IN_SET (in) "Input / SET pin; Connect a low power resistor to adjust the output current", 9 GND (power) "Ground", 10 ST (io) "Status pin", 11 OUT1 (power) "Output 1", 12 OUT2 (power) "Output 2", 13 OUT3 (power) "Output 3", 15 EP (power) "Exposed Pad; connect to GND in application"
part B pins: 4 NC "Pin not connected", 5 NC "Pin not connected", 7 NC "Pin not connected", 8 NC "Pin not connected", 14 NC "Pin not connected"

## TLD1315EL
designator U?
3 Channel High Side Current Source Basic LED Driver, 5.5 to 40 V, -40 to 150 degC, PG-SSOP-14, Reel, Green; Manufacturer: Infineon; PartNumber: TLD1315EL; Green: TRUE; Output Current (typ) mA/Ch: 60 mA; VS (max): 40 V; VS (min): 5.5 V; DatasheetVersion: Rev. 1.0; PackageVersion: Oct-08; PackageReference: PG-SSOP-14-1; PackageDescription: 14-Pin Plastic (Green) Shrink Small Outline Package, 4.9 x 3.9 mm Body, 0.65 mm Pitch; Supplier 1: Mouser; Supplier Part Number 1: N/A; Halogen-free: TRUE; Open Load Detection: TRUE; Packing: Reel; PWM: TRUE; Short Circuit Protection: TRUE; Mounting Technology: Surface Mount; ComponentLink1Description: Manufacturer URL; ComponentLink1URL: http://www.infineon.com/; ComponentLink2Description: Datasheet; ComponentLink2URL: http://www.infineon.com/dgdl/TLD1315EL-Data-Sheet-10-Infineon.pdf?folderId=db3a304412b407950112b408e8c90004&fileId=db3a30434422e00e01442a85d51a4f3d&ack=t; ComponentLink3Description: Package Specification; ComponentLink3URL: http://www.infineon.com/dgdl/PG-SSOP-14-1%2C-2%2C-3%2C-5-Package_Overview.pdf?folderId=db3a304327b897500127f79f69566553&fileId=db3a3043422231a901422ce38a900db8
footprint INF-PG-SSOP-14-1_N (SOP, 14-Leads, Body 4.9x3.9mm, Pitch 0.65mm, Thermal Pad 3.2x2.85mm, IPC Medium Density)
footprint INF-PG-SSOP-14-1_L (SOP, 14-Leads, Body 4.9x3.9mm, Pitch 0.65mm, Thermal Pad 3.2x2.85mm, IPC High Density)
footprint INF-PG-SSOP-14-1_M (SOP, 14-Leads, Body 4.9x3.9mm, Pitch 0.65mm, Thermal Pad 3.2x2.85mm, IPC Low Density)
part A pins: 1 VS (power) "Supply Voltage; battery supply, connect a decoupling capacitor (100 nF -1 uF) to GND", 2 VS (power) "Supply Voltage; battery supply, connect a decoupling capacitor (100 nF -1 uF) to GND", 3 EN (in) "Enable pin", 5 PWMI (in) "PWM Input", 6 IN_SET (in) "Input / SET pin; Connect a low power resistor to adjust the output current", 7 N-1 (io) "N-1 pin", 9 GND (power) "Ground", 10 ST (io) "Status pin", 11 OUT1 (power) "Output 1", 12 OUT2 (power) "Output 2", 13 OUT3 (power) "Output 3", 15 EP (power) "Exposed Pad; connect to GND in application"
part B pins: 4 NC "Pin not connected", 8 NC "Pin not connected", 14 NC "Pin not connected"

## TLD1326EL
designator U?
3 Channel High Side Current Source Basic LED Driver, 5.5 to 40 V, -40 to 150 degC, PG-SSOP-14, Reel, Green; Manufacturer: Infineon; PartNumber: TLD1326EL; Green: TRUE; Output Current (typ) mA/Ch: 60 mA; VS (max): 40 V; VS (min): 5.5 V; DatasheetVersion: Rev. 1.0; PackageVersion: Oct-08; PackageReference: PG-SSOP-14-1; PackageDescription: 14-Pin Plastic (Green) Shrink Small Outline Package, 4.9 x 3.9 mm Body, 0.65 mm Pitch; Supplier 1: Mouser; Supplier Part Number 1: N/A; Halogen-free: TRUE; Open Load Detection: TRUE; Packing: Reel; PWM: TRUE; Short Circuit Protection: TRUE; Mounting Technology: Surface Mount; ComponentLink1Description: Manufacturer URL; ComponentLink1URL: http://www.infineon.com/; ComponentLink2Description: Datasheet; ComponentLink2URL: http://www.infineon.com/dgdl/TLD1326EL-Data-Sheet-10-Infineon.pdf?folderId=db3a304412b407950112b408e8c90004&fileId=db3a30434422e00e01442a8928384f61&ack=t; ComponentLink3Description: Package Specification; ComponentLink3URL: http://www.infineon.com/dgdl/PG-SSOP-14-1%2C-2%2C-3%2C-5-Package_Overview.pdf?folderId=db3a304327b897500127f79f69566553&fileId=db3a3043422231a901422ce38a900db8
footprint INF-PG-SSOP-14-1_N (SOP, 14-Leads, Body 4.9x3.9mm, Pitch 0.65mm, Thermal Pad 3.2x2.85mm, IPC Medium Density)
footprint INF-PG-SSOP-14-1_L (SOP, 14-Leads, Body 4.9x3.9mm, Pitch 0.65mm, Thermal Pad 3.2x2.85mm, IPC High Density)
footprint INF-PG-SSOP-14-1_M (SOP, 14-Leads, Body 4.9x3.9mm, Pitch 0.65mm, Thermal Pad 3.2x2.85mm, IPC Low Density)
part A pins: 1 VS (power) "Supply Voltage; battery supply, connect a decoupling capacitor (100 nF - 1 uF) to GND", 2 VS (power) "Supply Voltage; battery supply, connect a decoupling capacitor (100 nF - 1 uF) to GND", 3 EN (in) "Enable pin", 5 PWMI (in) "PWM Input", 6 IN_SET (in) "Input / SET pin; Connect a low power resistor to adjust the output current", 7 N-1 (io) "N-1 pin", 9 GND (power) "Ground", 10 FB (out) "Feedback Output", 11 OUT1 (power) "Output 1", 12 OUT2 (power) "Output 2", 13 OUT3 (power) "Output 3", 15 EP (power) "Exposed Pad; connect to GND in application"
part B pins: 4 NC "Pin not connected", 8 NC "Pin not connected", 14 NC "Pin not connected"

## TLD2310EL
designator U?
3 Channel High Side Current Source Basic LED Driver, 5.5 to 40 V, -40 to 150 degC, PG-SSOP-14, Reel, Green; Manufacturer: Infineon; PartNumber: TLD2310EL; Green: TRUE; Open Load Detection: FALSE; Output Current (typ) mA/Ch: 60 mA; VS (max): 40 V; VS (min): 5.5 V; DatasheetVersion: Rev. 1.0; PackageVersion: Oct-08; PackageReference: PG-SSOP-14-1; PackageDescription: 14-Pin Plastic (Green) Shrink Small Outline Package, 4.9 x 3.9 mm Body, 0.65 mm Pitch; Supplier 1: Mouser; Supplier Part Number 1: N/A; Halogen-free: TRUE; Packing: Reel; PWM: TRUE; Short Circuit Protection: TRUE; Mounting Technology: Surface Mount; ComponentLink1Description: Manufacturer URL; ComponentLink1URL: http://www.infineon.com/; ComponentLink2Description: Datasheet; ComponentLink2URL: http://www.infineon.com/dgdl/TLD2310EL-Data-Sheet-10-Infineon.pdf?folderId=db3a304412b407950112b408e8c90004&fileId=db3a30434422e00e01442a8d6d134f7e&ack=t; ComponentLink3Description: Package Specification; ComponentLink3URL: http://www.infineon.com/dgdl/PG-SSOP-14-1%2C-2%2C-3%2C-5-Package_Overview.pdf?folderId=db3a304327b897500127f79f69566553&fileId=db3a3043422231a901422ce38a900db8
footprint INF-PG-SSOP-14-1_N (SOP, 14-Leads, Body 4.9x3.9mm, Pitch 0.65mm, Thermal Pad 3.2x2.85mm, IPC Medium Density)
footprint INF-PG-SSOP-14-1_L (SOP, 14-Leads, Body 4.9x3.9mm, Pitch 0.65mm, Thermal Pad 3.2x2.85mm, IPC High Density)
footprint INF-PG-SSOP-14-1_M (SOP, 14-Leads, Body 4.9x3.9mm, Pitch 0.65mm, Thermal Pad 3.2x2.85mm, IPC Low Density)
part A pins: 1 VS (power) "Supply Voltage", 2 VS (power) "Supply Voltage", 3 EN (in) "Enable pin", 5 IN_SET3 (in) "Input / SET pin 3", 6 IN_SET2 (in) "Input / SET pin 2", 7 IN_SET1 (in) "Input / SET pin 1", 9 GND (power) "Ground", 11 OUT1 (power) "Output 1", 12 OUT2 (power) "Output 2", 13 OUT3 (power) "Output 3", 15 EP (power) "Exposed Pad"
part B pins: 4 NC "Pin not connected", 8 NC "Pin not connected", 10 NC "Pin not connected", 14 NC "Pin not connected"

## TLD2311EL
designator U?
3 Channel High Side Current Source Basic LED Driver, 5.5 to 40 V, -40 to 150 degC, PG-SSOP-14, Reel, Green; Manufacturer: Infineon; PartNumber: TLD2311EL; Green: TRUE; Output Current (typ) mA/Ch: 60 mA; VS (max): 40 V; VS (min): 5.5 V; DatasheetVersion: Rev. 1.0; PackageVersion: Oct-08; PackageReference: PG-SSOP-14-1; PackageDescription: 14-Pin Plastic (Green) Shrink Small Outline Package, 4.9 x 3.9 mm Body, 0.65 mm Pitch; Supplier 1: Mouser; Supplier Part Number 1: N/A; Halogen-free: TRUE; Open Load Detection: TRUE; Packing: Reel; PWM: TRUE; Short Circuit Protection: TRUE; Mounting Technology: Surface Mount; ComponentLink1Description: Manufacturer URL; ComponentLink1URL: http://www.infineon.com/; ComponentLink2Description: Datasheet; ComponentLink2URL: http://www.infineon.com/dgdl/TLD2311EL-Data-Sheet-10-Infineon.pdf?folderId=db3a304412b407950112b408e8c90004&fileId=db3a304341c1e4a10141dfa7dfd80320&ack=t; ComponentLink3Description: Package Specification; ComponentLink3URL: http://www.infineon.com/dgdl/PG-SSOP-14-1%2C-2%2C-3%2C-5-Package_Overview.pdf?folderId=db3a304327b897500127f79f69566553&fileId=db3a3043422231a901422ce38a900db8
footprint INF-PG-SSOP-14-1_N (SOP, 14-Leads, Body 4.9x3.9mm, Pitch 0.65mm, Thermal Pad 3.2x2.85mm, IPC Medium Density)
footprint INF-PG-SSOP-14-1_L (SOP, 14-Leads, Body 4.9x3.9mm, Pitch 0.65mm, Thermal Pad 3.2x2.85mm, IPC High Density)
footprint INF-PG-SSOP-14-1_M (SOP, 14-Leads, Body 4.9x3.9mm, Pitch 0.65mm, Thermal Pad 3.2x2.85mm, IPC Low Density)
part A pins: 1 VS (power) "Supply Voltage; battery supply, connect a decoupling capacitor (100 nF - 1 uF) to GND", 2 VS (power) "Supply Voltage; battery supply, connect a decoupling capacitor (100 nF - 1 uF) to GND", 3 EN (in) "Enable pin", 5 IN_SET3 (in) "Input / SET pin 3; Connect a low power resistor to adjust the output current", 6 IN_SET2 (in) "Input / SET pin 2; Connect a low power resistor to adjust the output current", 7 IN_SET1 (in) "Input / SET pin 1; Connect a low power resistor to adjust the output current", 9 GND (power) "Ground", 10 ST (io) "Status pin", 11 OUT1 (power) "Output 1", 12 OUT2 (power) "Output 2", 13 OUT3 (power) "Output 3", 15 EP (power) "Exposed Pad; connect to GND in application"
part B pins: 4 NC "Pin not connected", 8 NC "Pin not connected", 14 NC "Pin not connected"

## TLD2314EL
designator U?
3 Channel High Side Current Source Basic LED Driver, 5.5 to 40 V, -40 to 150 degC, PG-SSOP-14, Reel, Green; Manufacturer: Infineon; PartNumber: TLD2314EL; Green: TRUE; Output Current (typ) mA/Ch: 60 mA; VS (max): 40 V; VS (min): 5.5 V; DatasheetVersion: Rev. 1.0; PackageVersion: Oct-08; PackageReference: PG-SSOP-14-1; PackageDescription: 14-Pin Plastic (Green) Shrink Small Outline Package, 4.9 x 3.9 mm Body, 0.65 mm Pitch; Supplier 1: Mouser; Supplier Part Number 1: N/A; Halogen-free: TRUE; Open Load Detection: TRUE; Packing: Reel; PWM: TRUE; Short Circuit Protection: TRUE; Mounting Technology: Surface Mount; ComponentLink1Description: Manufacturer URL; ComponentLink1URL: http://www.infineon.com/; ComponentLink2Description: Datasheet; ComponentLink2URL: http://www.infineon.com/dgdl/TLD2314EL-Data-Sheet-10-Infineon.pdf?folderId=db3a304412b407950112b408e8c90004&fileId=db3a304341c1e4a10141dfd4c6c4081c&ack=t; ComponentLink3Description: Package Specification; ComponentLink3URL: http://www.infineon.com/dgdl/PG-SSOP-14-1%2C-2%2C-3%2C-5-Package_Overview.pdf?folderId=db3a304327b897500127f79f69566553&fileId=db3a3043422231a901422ce38a900db8
footprint INF-PG-SSOP-14-1_N (SOP, 14-Leads, Body 4.9x3.9mm, Pitch 0.65mm, Thermal Pad 3.2x2.85mm, IPC Medium Density)
footprint INF-PG-SSOP-14-1_L (SOP, 14-Leads, Body 4.9x3.9mm, Pitch 0.65mm, Thermal Pad 3.2x2.85mm, IPC High Density)
footprint INF-PG-SSOP-14-1_M (SOP, 14-Leads, Body 4.9x3.9mm, Pitch 0.65mm, Thermal Pad 3.2x2.85mm, IPC Low Density)
pins: 1 VS (power) "Supply Voltage; battery supply, connect a decoupling capacitor (100 nF - 1 uF) to GND", 2 VS (power) "Supply Voltage; battery supply, connect a decoupling capacitor (100 nF - 1 uF) to GND", 3 DEN (in) "Diagnosis enable pin", 4 NC "Pin not connected", 5 IN_SET3 (in) "Input / SET pin 3; Connect a low power resistor to adjust the output current", 6 IN_SET2 (in) "Input / SET pin 2; Connect a low power resistor to adjust the output current", 7 IN_SET1 (in) "Input / SET pin 1; Connect a low power resistor to adjust the output current", 8 NC "Pin not connected", 9 GND (power) "Ground", 10 ST (io) "Status pin", 11 OUT1 (power) "Output 1", 12 OUT2 (power) "Output 2", 13 OUT3 (power) "Output 3", 14 NC "Pin not connected", 15 EP (power) "Exposed Pad; connect to GND in application"

## TLD2326EL
designator U?
3 Channel High Side Current Source Basic LED Driver, 5.5 to 40 V, -40 to 150 degC, PG-SSOP-14, Reel, Green; Manufacturer: Infineon; PartNumber: TLD2326EL; Green: TRUE; Output Current (typ) mA/Ch: 60 mA; VS (max): 40 V; VS (min): 5.5 V; DatasheetVersion: Rev. 1.0; PackageVersion: Oct-08; PackageReference: PG-SSOP-14-1; PackageDescription: 14-Pin Plastic (Green) Shrink Small Outline Package, 4.9 x 3.9 mm Body, 0.65 mm Pitch; Supplier 1: Mouser; Supplier Part Number 1: N/A; Halogen-free: TRUE; Open Load Detection: TRUE; Packing: Reel; PWM: TRUE; Short Circuit Protection: TRUE; Mounting Technology: Surface Mount; ComponentLink1Description: Manufacturer URL; ComponentLink1URL: http://www.infineon.com/; ComponentLink2Description: Datasheet; ComponentLink2URL: http://www.infineon.com/dgdl/TLD2326EL-Data-Sheet-10-Infineon.pdf?folderId=db3a304412b407950112b408e8c90004&fileId=db3a30434422e00e01442a9146214fa2&ack=t; ComponentLink3Description: Package Specification; ComponentLink3URL: http://www.infineon.com/dgdl/PG-SSOP-14-1%2C-2%2C-3%2C-5-Package_Overview.pdf?folderId=db3a304327b897500127f79f69566553&fileId=db3a3043422231a901422ce38a900db8
footprint INF-PG-SSOP-14-1_N (SOP, 14-Leads, Body 4.9x3.9mm, Pitch 0.65mm, Thermal Pad 3.2x2.85mm, IPC Medium Density)
footprint INF-PG-SSOP-14-1_L (SOP, 14-Leads, Body 4.9x3.9mm, Pitch 0.65mm, Thermal Pad 3.2x2.85mm, IPC High Density)
footprint INF-PG-SSOP-14-1_M (SOP, 14-Leads, Body 4.9x3.9mm, Pitch 0.65mm, Thermal Pad 3.2x2.85mm, IPC Low Density)
part A pins: 1 VS (power) "Supply Voltage; battery supply, connect a decoupling capacitor (100 nF - 1 uF) to GND", 2 VS (power) "Supply Voltage; battery supply, connect a decoupling capacitor (100 nF - 1 uF) to GND", 3 EN (in) "Enable pin", 5 IN_SET3 (in) "Input / SET pin 3; Connect a low power resistor to adjust the output current", 6 IN_SET2 (in) "Input / SET pin 2; Connect a low power resistor to adjust the output current", 7 IN_SET1 (in) "Input / SET pin 1; Connect a low power resistor to adjust the output current", 9 GND (power) "Ground", 10 FB (out) "Feedback Output", 11 OUT1 (power) "Output 1", 12 OUT2 (power) "Output 2", 13 OUT3 (power) "Output 3", 15 EP (power) "Exposed Pad; connect to GND in application"
part B pins: 4 NC "Pin not connected", 8 NC "Pin not connected", 14 NC "Pin not connected"

## TLD5045EJ
designator U?
700 mA High Integration - DC/DC Step-Down Converter, 5 to 40 V, -40 to 150 degC, PG-DSO-8-27, Reel, Pb-free; Manufacturer: Infineon; PartNumber: TLD5045EJ; Green: TRUE; Topology: DC-DC Buck; VS (max): 40 V; VS (min): 5 V; DatasheetVersion: Rev. 1.0; PackageVersion: V01, 06/2012; PackageReference: PG-DSO-8-27; PackageDescription: 8-Pin Plastic (Green) Dual Small Outline Package, 4.9 x 3.9 mm Body, 1.27 mm Pitch; Supplier 1: Digi-Key; Supplier Part Number 1: TLD5045EJ-ND; Halogen-free: TRUE; Packing: Reel; Mounting Technology: Surface Mount; Code_JEDEC: MS-012; ComponentLink1Description: Manufacturer URL; ComponentLink1URL: http://www.infineon.com/; ComponentLink2Description: Datasheet; ComponentLink2URL: http://www.infineon.com/dgdl/TLD5045EJ_DS_V10_May2011.pdf?folderId=db3a3043163797a6011667aa084c0e01&fileId=db3a304330f6860601310a21ecb200b1&location=en.Products.Automotive_ICs.Infineon_Auto_LED_Driver.Power_LED_drivers.DATASHEET.TLD5045EJ_DS_V10_May2011.pdf; ComponentLink3Description: Package Specification; ComponentLink3URL: http://www.infineon.com/dgdl/ILD4071_DS_V10_November2011.pdf?folderId=db3a30431f848401011fcbf2ab4c04c4&fileId=db3a30433784a04001380498fdf04c32
footprint INF-PG-DSO-8-27_N (SOP, 8-Leads, Body 4.9x3.9mm, Pitch 1.27mm, Thermal Pad 3.2x2.85mm, IPC Medium Density)
footprint INF-PG-DSO-8-27_L (SOP, 8-Leads, Body 4.9x3.9mm, Pitch 1.27mm, Thermal Pad 3.2x2.85mm, IPC High Density)
footprint INF-PG-DSO-8-27_M (SOP, 8-Leads, Body 4.9x3.9mm, Pitch 1.27mm, Thermal Pad 3.2x2.85mm, IPC Low Density)
pins: 1 VREC (power) "Voltage Recirculation Output and Internal Supply Input; This pin is the supply pin of the IC (see block diagram). Furthermore the cathode of the integrated fast freewheeling diode is connected to this pin as well.", 2 ST (oc) "Status Output;Open collector diagnostic output to indicate an open load failure. Refer to Chapter 7 for more details.", 3 EN (in) "Enable; Apply logic HIGH signal to enable the device", 4 SET (in) "SET Input;Connect a low power resistor to adjust the output current.", 5 PWMI (in) "PWM Input; PWM signal for dimming LEDs. Connect external R and C combination to achieve an auto PWM-dimming function with defined frequency and duty cycle. 1) internal PWM dimming function (external RC connected to GND) 2) (See Datasheet)", 6 FREQ (in) "FREQuency Select Input; Connect external Resistor and Capacitor to GND to set the OFF-time of the switching frequency.", 7 GND (power) "Ground; Connect to system ground.", 8 SW (oc) "Integrated Power-Switch Output; Collector of the integrated NPN-power transistor.", 9 EP (power) "Exposed Pad; Connect to external heatspreading copper area with electrically GND (e.g. inner GND layer of the PCB via thermal vias)"

## TLD5085EJ
designator U?
1.8 A DC/DC Step-Down Converter, 4.75 to 45 V, -40 to 150 degC, PG-DSO-8-27, Reel, Pb-free; Manufacturer: Infineon; PartNumber: TLD5085EJ; Green: TRUE; Topology: DC-DC Buck; VS (max): 45 V; VS (min): 4.75 V; DatasheetVersion: Rev. 1.1; PackageVersion: V01, 06/2012; PackageReference: PG-DSO-8-27; PackageDescription: 8-Pin Plastic (Green) Dual Small Outline Package, 4.9 x 3.9 mm Body, 1.27 mm Pitch; Supplier 1: Mouser; Supplier Part Number 1: 726-TLD5085EJ; Supplier 2: Digi-Key; Supplier Part Number 2: TLD5085EJ-ND; Packing: Reel; Mounting Technology: Surface Mount; Code_JEDEC: MS-012; ComponentLink1Description: Manufacturer URL; ComponentLink1URL: http://www.infineon.com/; ComponentLink2Description: Datasheet; ComponentLink2URL: http://www.infineon.com/dgdl/TLD5085EJ_DS_V11_December2009.pdf?folderId=db3a3043163797a6011667aa084c0e01&fileId=db3a30432239cccd0122f3bbadfa561c&location=en.Products.Automotive_ICs.Infineon_Auto_LED_Driver.Power_LED_drivers.DATASHEET.TLD5085EJ_DS_V11_December2009.pdf; ComponentLink3Description: Package Specification; ComponentLink3URL: http://www.infineon.com/dgdl/ILD4071_DS_V10_November2011.pdf?folderId=db3a30431f848401011fcbf2ab4c04c4&fileId=db3a30433784a04001380498fdf04c32
footprint INF-PG-DSO-8-27_N (SOP, 8-Leads, Body 4.9x3.9mm, Pitch 1.27mm, Thermal Pad 3.2x2.85mm, IPC Medium Density)
footprint INF-PG-DSO-8-27_L (SOP, 8-Leads, Body 4.9x3.9mm, Pitch 1.27mm, Thermal Pad 3.2x2.85mm, IPC High Density)
footprint INF-PG-DSO-8-27_M (SOP, 8-Leads, Body 4.9x3.9mm, Pitch 1.27mm, Thermal Pad 3.2x2.85mm, IPC Low Density)
pins: 1 PWMI (in) "PWM Input for; Provides LED dimming option. If not used connect to VS.", 2 GND (power) "Ground; Connect to system ground.", 3 COMP (out) "Compensation Input; Frequency compensation for regulation loop stability. Connect R and C network to pin for stability.", 4 FB (in) "Feedback Input; Connect a defined power resistor (RFB=0.6V/ILED) to get the needed LED output current. For adjustable output voltages connect this pin via a voltage divider in parallel to the output capacitor.", 5 BDS (power) "Buck Driver Supply Input; Connect the bootstrap capacitor between this pin and pin BUO.", 6 BUO (oe) "Buck Switch Output; Source of the integrated power-switch. Connect directly to the cathode of external freewheeling diode and the buck circuit inductance.", 7 EN (in) "Enable Input; Apply logic high signal to enable the device. A pull down resistor is integrated.", 8 VS (power) "Supply Voltage Input; Connect to supply voltage source.", 9 EP (power) "Exposed Pad; Connect to heatsink area and GND by low inductance wiring."